# EAGLE library part CP2102N-28 (library Brenocq-eagle)
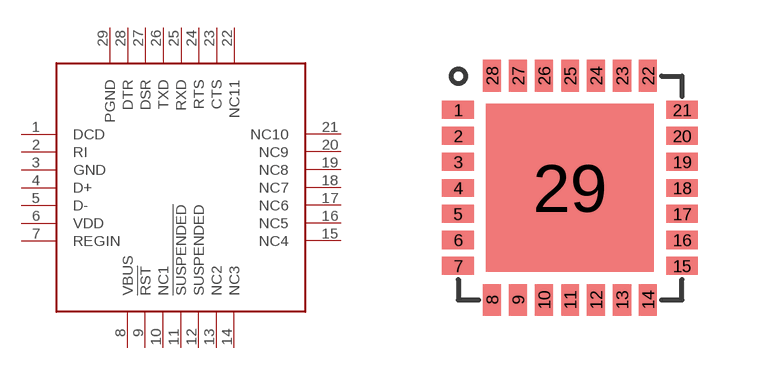
[diagram p1: symbol with the pads of QFN28; footprint QFN28]

Designator prefix -

## CP2102N-28  [QFN28]
1  DCD
2  RI
3  GND
4  D+
5  D-
6  VDD
7  REGIN
8  VBUS  in
9  !RST!  in
10  NC1  nc
11  !SUSPENDED!
12  SUSPENDED  nc
13  NC2  nc
14  NC3  nc
15  NC4  nc
16  NC5  nc
17  NC6  nc
18  NC7  nc
19  NC8  nc
20  NC9  nc
21  NC10  nc
22  NC11  nc
23  CTS
24  RTS
25  RXD
26  TXD
27  DSR
28  DTR
29  PGND

## Footprint QFN28 (pad centres in mm)
smd 0.8 x 0.45: 1 -2.8,1.95; 2 -2.8,1.3; 3 -2.8,0.65; 4 -2.8,0; 5 -2.8,-0.65; 6 -2.8,-1.3; 7 -2.8,-1.95; 15 2.8,-1.95; 16 2.8,-1.3; 17 2.8,-0.65; 18 2.8,0; 19 2.8,0.65; 20 2.8,1.3; 21 2.8,1.95
smd 0.45 x 0.8: 8 -1.95,-2.8; 9 -1.3,-2.8; 10 -0.65,-2.8; 11 0,-2.8; 12 0.65,-2.8; 13 1.3,-2.8; 14 1.95,-2.8; 22 1.95,2.8; 23 1.3,2.8; 24 0.65,2.8; 25 0,2.8; 26 -0.65,2.8; 27 -1.3,2.8; 28 -1.95,2.8
smd 4.2 x 4.2: 29 0,0